# EAGLE library part EFM32 (library QFN32)
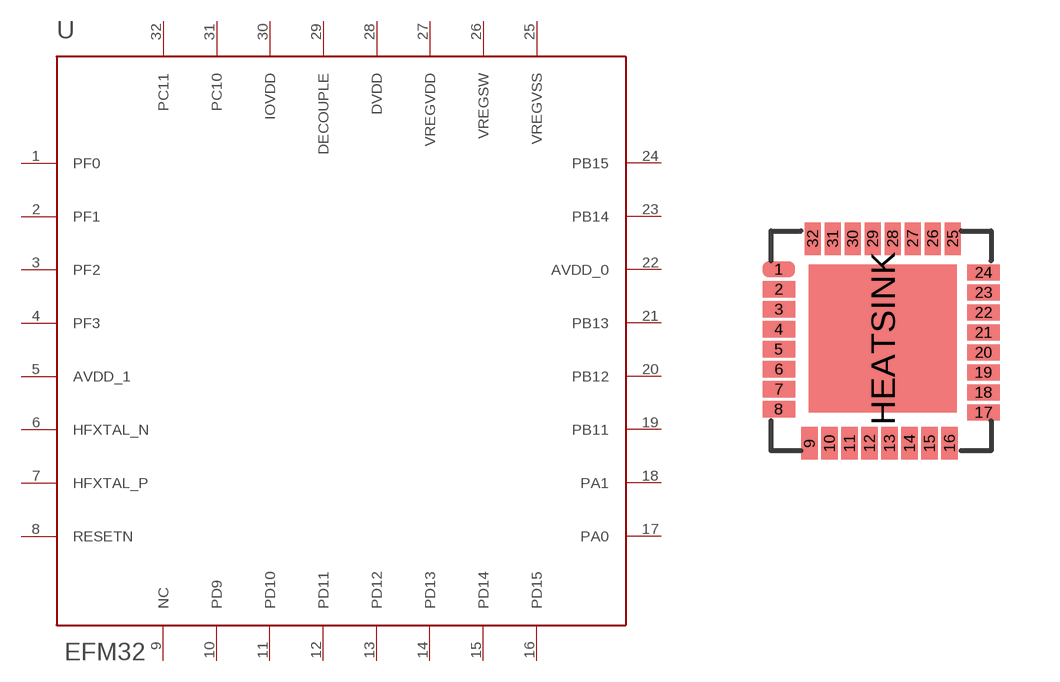
[diagram p5: symbol with the pads of QFN32; footprint QFN32]

Designator prefix -

## EFM32  [QFN32]
1  PF0
2  PF1
3  PF2
4  PF3
5  AVDD_1
6  HFXTAL_N
7  HFXTAL_P
8  RESETN
9  NC
10  PD9
11  PD10
12  PD11
13  PD12
14  PD13
15  PD14
16  PD15
17  PA0
18  PA1
19  PB11
20  PB12
21  PB13
22  AVDD_0
23  PB14
24  PB15
25  VREGVSS
26  VREGSW
27  VREGVDD
28  DVDD
29  DECOUPLE
30  IOVDD
31  PC10
32  PC11

## Footprint QFN32 (pad centres in mm)
smd 0.813 x 0.406: 1 -2.56,1.79; 2 -2.56,1.29; 3 -2.56,0.79; 4 -2.56,0.29; 5 -2.56,-0.21; 6 -2.56,-0.71; 7 -2.56,-1.21; 8 -2.56,-1.71; 17 2.56,-1.79; 18 2.56,-1.29; 19 2.56,-0.79; 20 2.56,-0.29; 21 2.56,0.21; 22 2.56,0.71; 23 2.56,1.21; 24 2.56,1.71
smd 0.406 x 0.813: 9 -1.79,-2.56; 10 -1.29,-2.56; 11 -0.79,-2.56; 12 -0.29,-2.56; 13 0.21,-2.56; 14 0.71,-2.56; 15 1.21,-2.56; 16 1.71,-2.56; 25 1.79,2.56; 26 1.29,2.56; 27 0.79,2.56; 28 0.29,2.56; 29 -0.21,2.56; 30 -0.71,2.56; 31 -1.21,2.56; 32 -1.71,2.56
smd 3.7 x 3.7: HEATSINK 0.04,0.06